# Altium integrated library SSD1306__128x32.IntLib: 1 symbol
Pins are listed as number, name and electrical type; pins without a type are passive.

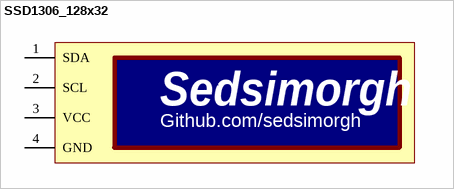
[diagram p0: symbol SSD1306_128x32]

## SSD1306_128x32
designator *
footprint SSD1306_128X32
pins: 1 SDA, 2 SCL, 3 VCC, 4 GND
text: Sedsimorgh; Github.com/sedsimorgh